# Altium integrated library PERfECT.IntLib: 1 symbol
Pins are listed as number, name and electrical type; pins without a type are passive.

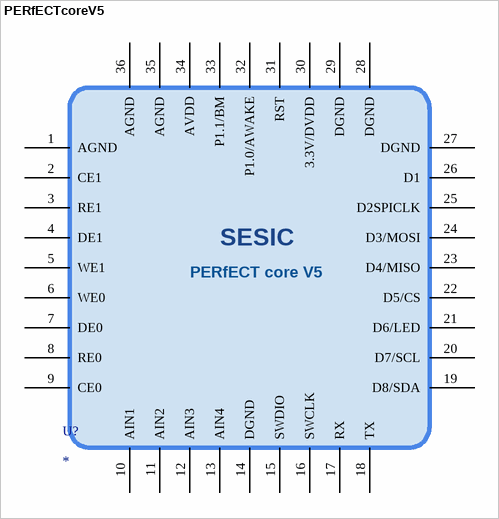
[diagram p0: symbol PERfECTcoreV5]

## PERfECTcoreV5
designator U?
This is the 5th version of PERfEC core.https://github.com/WISE-PERfECT/PERfECT
footprint PERfECTcore36
pins: 1 AGND, 2 CE1, 3 RE1, 4 DE1, 5 WE1, 6 WE0, 7 DE0, 8 RE0, 9 CE0, 10 AIN1, 11 AIN2, 12 AIN3, 13 AIN4, 14 DGND, 15 SWDIO, 16 SWCLK, 17 RX, 18 TX, 19 D8/SDA, 20 D7/SCL, 21 D6/LED, 22 D5/CS, 23 D4/MISO, 24 D3/MOSI, 25 D2SPICLK, 26 D1, 27 DGND, 28 DGND (power), 29 DGND, 30 3.3V/DVDD, 31 RST "Reset system by short with dGND", 32 P1.0/AWAKE, 33 P1.1/BM, 34 AVDD, 35 AGND, 36 AGND
text: SESIC; PERfECT core V5